# Altium schematic symbol library Conn,RF,U.FL,50 Ohm,SMD.Schlib: 1 symbol
Pins are listed as number, name and electrical type; pins without a type are passive.

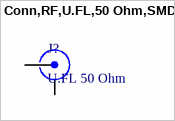
[diagram p0: symbol Conn,RF,U.FL,50 Ohm,SMD]

## Conn,RF,U.FL,50 Ohm,SMD
designator J?, comment U.FL 50 Ohm
U.FL (UMCC) Connector Receptacle, Male Pin 50Ohm Surface Mount Solder
pins: 1, 2